# Altium schematic symbol library Schlib1.SchLib: 17 symbols
Pins are listed as number, name and electrical type; pins without a type are passive.

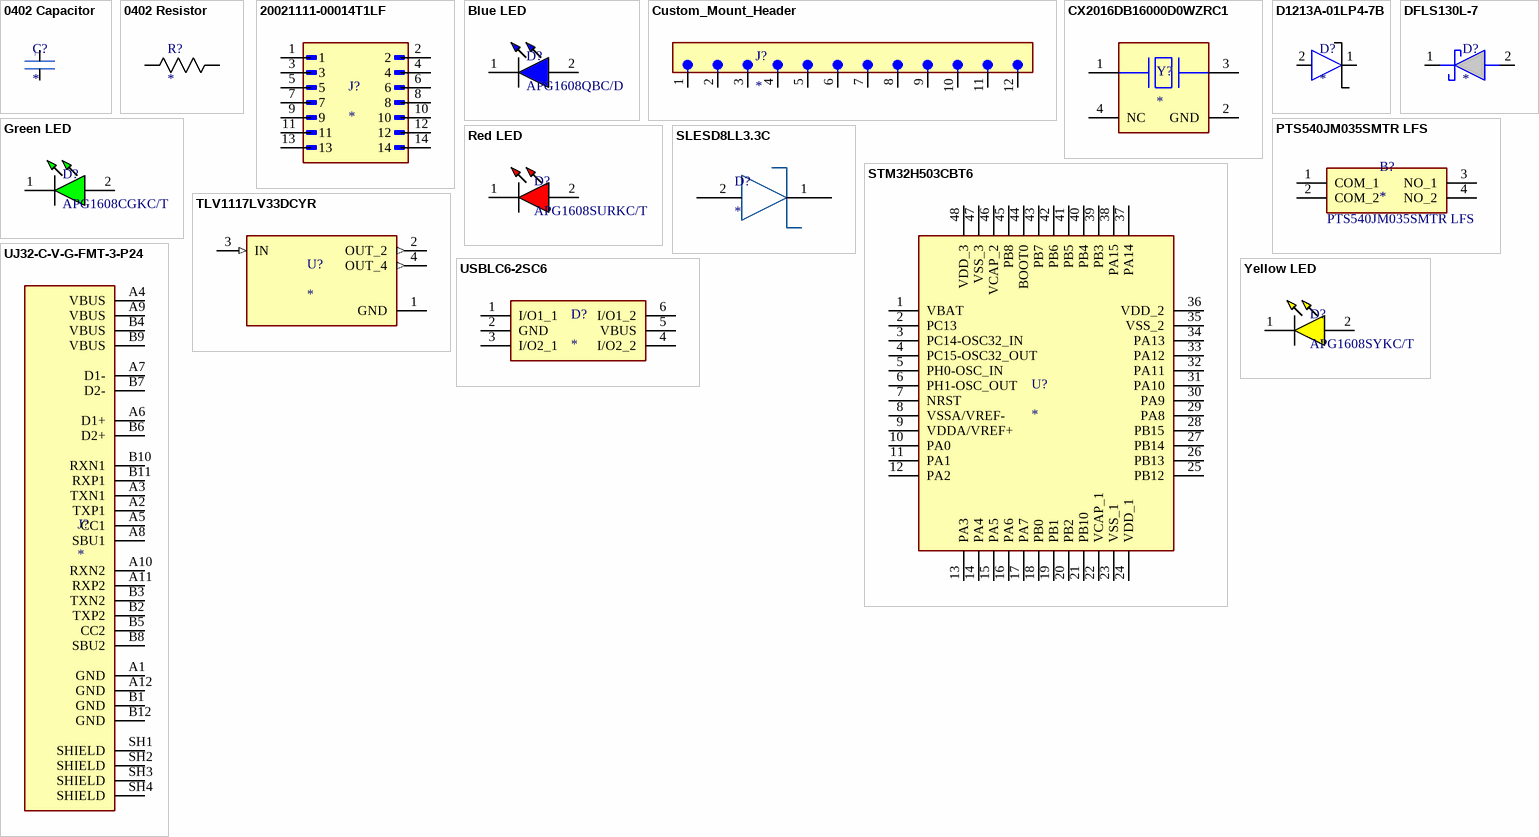
[diagram p0: symbols 0402 Capacitor to Yellow LED]

## 0402 Capacitor
designator C?
footprint 0402 Capacitor
pins: 1, 2
text: 0402

## 0402 Resistor
designator R?
footprint 0402 Resistor
pins: 1, 2

## 20021111-00014T1LF
designator J?
footprint 20021111-00014T1LF
pins: 1, 2, 3, 4, 5, 6, 7, 8, 9, 10, 11, 12, 13, 14

## Blue LED
designator D?, comment APG1608QBC/D
Supplier 1: RS (Formerly Allied Electronics); Supplier Part Number 1: APG1608QBC/D
footprint 0603 LED
pins: 1 K, 2 A

## Custom_Mount_Header
designator J?
footprint Custom_header
pins: 1, 2, 3, 4, 5, 6, 7, 8, 9, 10, 11, 12

## CX2016DB16000D0WZRC1
designator Y?
CX2016DB16000D0WZRC1; Supplier 1: DigiKey; Supplier Part Number 1: 478-CX2016DB16000D0WZRC1CT-ND
footprint CX2016DB16000D0WZRC1
pins: 1, 2 GND (power), 3, 4 NC

## D1213A-01LP4-7B
designator D?
D1213A-01LP4-7B
footprint SLESD8LL3.3C
pins: 1, 2

## DFLS130L-7
designator D?
DFLS130L-7; Supplier 1: Avnet; Supplier Part Number 1: DFLS130L-7
footprint PCBComponent_1
pins: 1 K, 2 A

## Green LED
designator D?, comment APG1608CGKC/T
Supplier 1: DigiKey; Supplier Part Number 1: 754-1357-6-ND
footprint 0603 LED
pins: 1 K, 2 A

## PTS540JM035SMTR LFS
designator B?
PTS540JM035SMTR LFS; Supplier 1: DigiKey; Supplier Part Number 1: CKN10809CT-ND
footprint PTS540JM035SMTR LFS
pins: 1 COM_1, 2 COM_2, 3 NO_1, 4 NO_2

## Red LED
designator D?, comment APG1608SURKC/T
Supplier 1: DigiKey; Supplier Part Number 1: 754-1359-1-ND
footprint 0603 LED
pins: 1 K, 2 A

## SLESD8LL3.3C
designator D?
SLESD8LL3.3C
footprint SLESD8LL3.3C
pins: 1, 2

## STM32H503CBT6
designator U?
Supplier 1: Arrow Electronics; Supplier Part Number 1: STM32H503CBT6
footprint STM32H503
pins: 1 VBAT, 2 PC13, 3 PC14-OSC32_IN, 4 PC15-OSC32_OUT, 5 PH0-OSC_IN, 6 PH1-OSC_OUT, 7 NRST, 8 VSSA/VREF-, 9 VDDA/VREF+, 10 PA0, 11 PA1, 12 PA2, 13 PA3, 14 PA4, 15 PA5, 16 PA6, 17 PA7, 18 PB0, 19 PB1, 20 PB2, 21 PB10, 22 VCAP_1, 23 VSS_1, 24 VDD_1, 25 PB12, 26 PB13, 27 PB14, 28 PB15, 29 PA8, 30 PA9, 31 PA10, 32 PA11, 33 PA12, 34 PA13, 35 VSS_2, 36 VDD_2, 37 PA14, 38 PA15, 39 PB3, 40 PB4, 41 PB5, 42 PB6, 43 PB7, 44 BOOT0, 45 PB8, 46 VCAP_2, 47 VSS_3, 48 VDD_3

## TLV1117LV33DCYR
designator U?
TLV1117LV33DCYR; Supplier 1: DigiKey; Supplier Part Number 1: 296-28778-1-ND
footprint TLV1117LV33DCYR
pins: 1 GND (power), 2 OUT_2 (out), 3 IN (in), 4 OUT_4 (out)

## UJ32-C-V-G-FMT-3-P24
designator J?
UJ32-C-V-G-FMT-3-P24; Supplier 1: DigiKey; Supplier Part Number 1: 2223-UJ32-C-V-G-FMT-3-P24-ND
footprint UJ32-C-V-G-FMT-3-P24
pins: A1 GND, A2 TXP1, A3 TXN1, A4 VBUS, A5 CC1, A6 D1+, A7 D1-, A8 SBU1, A9 VBUS, A10 RXN2, A11 RXP2, A12 GND, B1 GND, B2 TXP2, B3 TXN2, B4 VBUS, B5 CC2, B6 D2+, B7 D2-, B8 SBU2, B9 VBUS, B10 RXN1, B11 RXP1, B12 GND, SH1 SHIELD, SH2 SHIELD, SH3 SHIELD, SH4 SHIELD

## USBLC6-2SC6
designator D?
USBLC6-2SC6; Supplier 1: Avnet; Supplier Part Number 1: USBLC6-2SC6
footprint USBLC6-2SC6
pins: 1 I/O1_1, 2 GND, 3 I/O2_1, 4 I/O2_2, 5 VBUS, 6 I/O1_2

## Yellow LED
designator D?, comment APG1608SYKC/T
Supplier 1: RS (Formerly Allied Electronics); Supplier Part Number 1: APG1608SYKC/T
footprint 0603 LED
pins: 1 K, 2 A